# EAGLE library part ATMEGA48 (library ng)
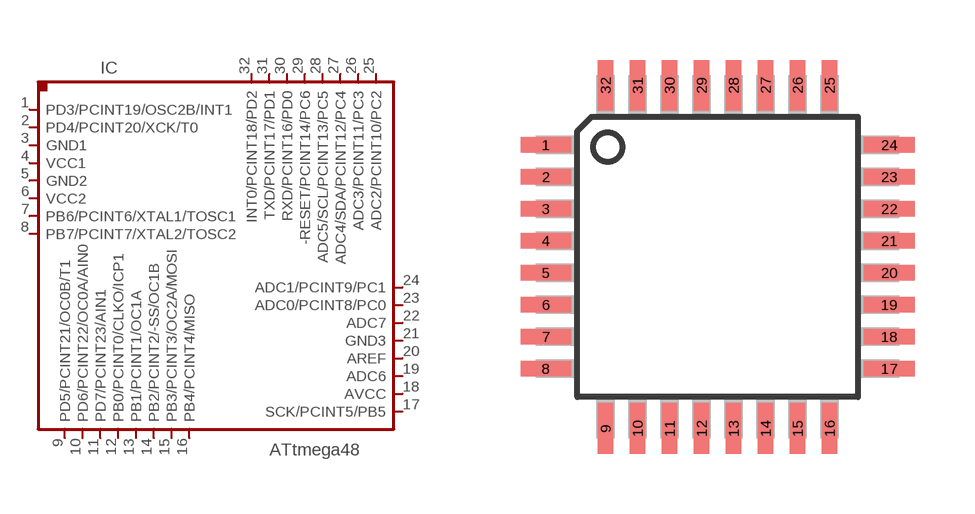
[diagram p7: symbol with the pads of TQFP32-08; footprint TQFP32-08]

Designator prefix IC

## ATMEGA48TQFP  [TQFP32-08]
1  PD3/PCINT19/OSC2B/INT1
2  PD4/PCINT20/XCK/T0
3  GND1
4  VCC1
5  GND2
6  VCC2
7  PB6/PCINT6/XTAL1/TOSC1
8  PB7/PCINT7/XTAL2/TOSC2
9  PD5/PCINT21/OC0B/T1
10  PD6/PCINT22/OC0A/AIN0
11  PD7/PCINT23/AIN1
12  PB0/PCINT0/CLKO/ICP1
13  PB1/PCINT1/OC1A
14  PB2/PCINT2/-SS/OC1B
15  PB3/PCINT3/OC2A/MOSI
16  PB4/PCINT4/MISO
17  SCK/PCINT5/PB5
18  AVCC
19  ADC6
20  AREF
21  GND3
22  ADC7
23  ADC0/PCINT8/PC0
24  ADC1/PCINT9/PC1
25  ADC2/PCINT10/PC2
26  ADC3/PCINT11/PC3
27  ADC4/SDA/PCINT12/PC4
28  ADC5/SCL/PCINT13/PC5
29  -RESET/PCINT14/PC6
30  RXD/PCINT16/PD0
31  TXD/PCINT17/PD1
32  INT0/PCINT18/PD2

## Footprint TQFP32-08 (pad centres in mm)
Thin Plasic Quad Flat Package Grid 0.8 mm
smd 1.27 x 0.381: 1 -4.293,2.8; 2 -4.293,2; 3 -4.293,1.2; 4 -4.293,0.4; 5 -4.293,-0.4; 6 -4.293,-1.2; 7 -4.293,-2; 8 -4.293,-2.8; 17 4.293,-2.8; 18 4.293,-2; 19 4.293,-1.2; 20 4.293,-0.4; 21 4.293,0.4; 22 4.293,1.2; 23 4.293,2; 24 4.293,2.8
smd 0.381 x 1.27: 9 -2.8,-4.293; 10 -2,-4.293; 11 -1.2,-4.293; 12 -0.4,-4.293; 13 0.4,-4.293; 14 1.2,-4.293; 15 2,-4.293; 16 2.8,-4.293; 25 2.8,4.293; 26 2,4.293; 27 1.2,4.293; 28 0.4,4.293; 29 -0.4,4.293; 30 -1.2,4.293; 31 -2,4.293; 32 -2.8,4.293